# EAGLE library part SKOROXOD (library zubax_modules)
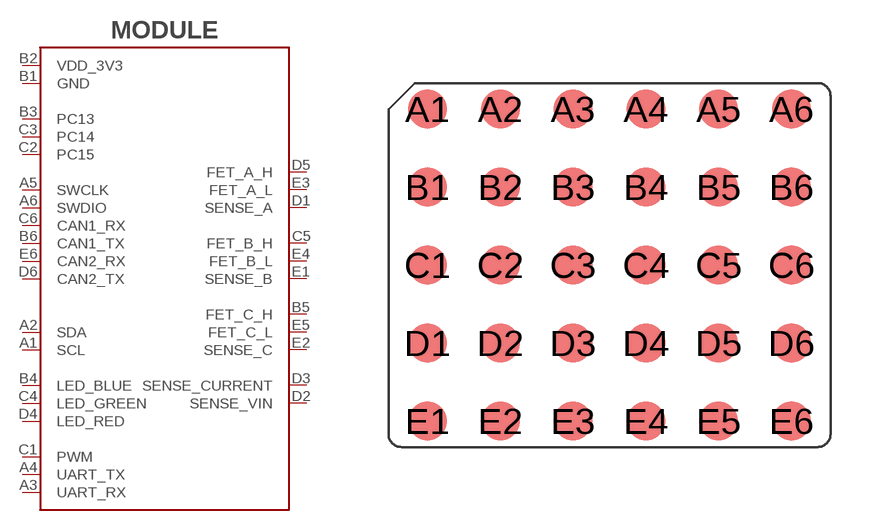
[diagram p3: symbol with the pads of SKOROXOD; footprint SKOROXOD]

Designator prefix MODULE

## SKOROXOD (MANF: ZUBAX; MANF#: SKOROXOD)  [SKOROXOD]
A1  SCL
A2  SDA
A3  UART_RX
A4  UART_TX
A5  SWCLK
A6  SWDIO
B1  GND
B2  VDD_3V3
B3  PC13
B4  LED_BLUE
B5  FET_C_H
B6  CAN1_TX
C1  PWM
C2  PC15
C3  PC14
C4  LED_GREEN
C5  FET_B_H
C6  CAN1_RX
D1  SENSE_A
D2  SENSE_VIN
D3  SENSE_CURRENT
D4  LED_RED
D5  FET_A_H
D6  CAN2_TX
E1  SENSE_B
E2  SENSE_C
E3  FET_A_L
E4  FET_B_L
E5  FET_C_L
E6  CAN2_RX

## Footprint SKOROXOD (pad centres in mm)
smd 1.5 x 1.5: A1 -7,6; A2 -4.2,6; A3 -1.4,6; A4 1.4,6; A5 4.2,6; A6 7,6; B1 -7,3; B2 -4.2,3; B3 -1.4,3; B4 1.4,3; B5 4.2,3; B6 7,3; C1 -7,0; C2 -4.2,0; C3 -1.4,0; C4 1.4,0; C5 4.2,0; C6 7,0; D1 -7,-3; D2 -4.2,-3; D3 -1.4,-3; D4 1.4,-3; D5 4.2,-3; D6 7,-3; E1 -7,-6; E2 -4.2,-6; E3 -1.4,-6; E4 1.4,-6; E5 4.2,-6; E6 7,-6